# EAGLE library part MAX4820 (library matt)
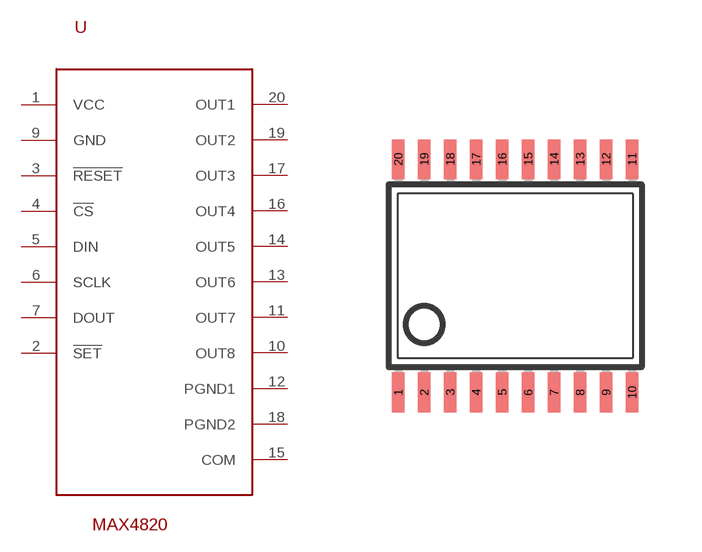
[diagram p5: symbol with the pads of TSSOP20; footprint TSSOP20]

Designator prefix -

## MAX4820  [TSSOP20]
1  VCC  pwr
2  !SET
3  !RESET
4  !CS
5  DIN
6  SCLK
7  DOUT
9  GND  pwr
10  OUT8
11  OUT7
12  PGND1  pwr
13  OUT6
14  OUT5
15  COM
16  OUT4
17  OUT3
18  PGND2  pwr
19  OUT2
20  OUT1

## Footprint TSSOP20 (pad centres in mm)
Thin Shrink Small Outline Plastic 20 MAX3223-MAX3243.pdf
smd 0.305 x 0.991: 1 -2.925,-2.918; 2 -2.275,-2.918; 3 -1.625,-2.918; 4 -0.975,-2.918; 5 -0.325,-2.918; 6 0.325,-2.918; 7 0.975,-2.918; 8 1.625,-2.918; 9 2.275,-2.918; 10 2.925,-2.918; 11 2.925,2.918; 12 2.275,2.918; 13 1.625,2.918; 14 0.975,2.918; 15 0.325,2.918; 16 -0.325,2.918; 17 -0.975,2.918; 18 -1.625,2.918; 19 -2.275,2.918; 20 -2.925,2.918